# EAGLE library part ITG-3701 (library itg_3701)
ITG-3701 Gyroscope by Invensense.
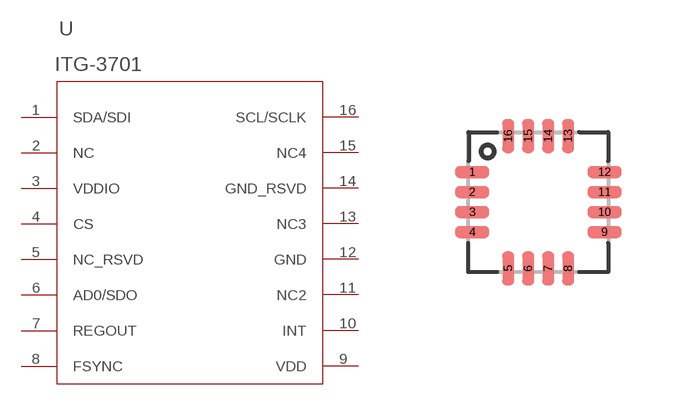
[diagram p0: symbol with the pads of QFN-16; footprint QFN-16]

Designator prefix U

## ITG-37013X3MM  [QFN-16]
1  SDA/SDI  pwr
2  NC  oc
3  VDDIO  pwr
4  CS  pwr
5  NC_RSVD  pwr
6  AD0/SDO  in
7  REGOUT  in
8  FSYNC  pas
9  VDD  pwr
10  INT  pwr
11  NC2  in
12  GND  pwr
13  NC3  pwr
14  GND_RSVD  pwr
15  NC4  pwr
16  SCL/SCLK  in

## Footprint QFN-16 (pad centres in mm)
smd 0.85 x 0.3: 1 -1.655,0.75; 2 -1.655,0.25; 3 -1.655,-0.25; 4 -1.655,-0.75; 9 1.655,-0.75; 10 1.655,-0.25; 11 1.655,0.25; 12 1.655,0.75
smd 0.3 x 0.85: 5 -0.75,-1.655; 6 -0.25,-1.655; 7 0.25,-1.655; 8 0.75,-1.655; 13 0.75,1.655; 14 0.25,1.655; 15 -0.25,1.655; 16 -0.75,1.655